# Altium schematic symbol library iv_batteries.SchLib: 6 symbols
Pins are listed as number, name and electrical type; pins without a type are passive.

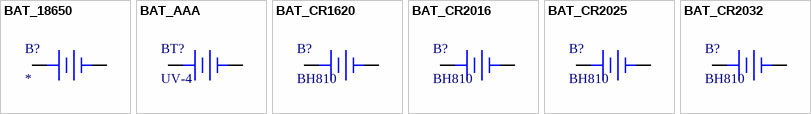
[diagram p0: symbols BAT_18650 to BAT_CR2032]

## BAT_18650
designator B?
pins: 1 +, 2 -

## BAT_AAA
designator BT?, comment UV-4
Battery holder for AAA
pins: 1 +, 2 -

## BAT_CR1620
designator B?, comment BH810
Battery holder for CR2032
pins: 1 +, 2 -

## BAT_CR2016
designator B?, comment BH810
Battery holder for CR2032
pins: 1 +, 2 -

## BAT_CR2025
designator B?, comment BH810
Battery holder for CR2032
pins: 1 +, 2 -

## BAT_CR2032
designator B?, comment BH810
Battery holder for CR2032
pins: 1 +, 2 -